# Altium integrated library Through Hole Resistors.IntLib: 2 symbols
Pins are listed as number, name and electrical type; pins without a type are passive.

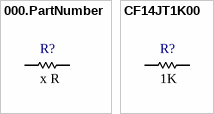
[diagram p0: symbols 000.PartNumber to CF14JT1K00]

## 000.PartNumber
designator R?  Resistance: x R  (hidden comment: *)
Digikey Description; Manufacturer: *; Series: *; Package: *; Tolerance: *; Power (Watts): *; Composition: *; Features: *; Temperature Coefficient: *; Operating Temperature: *; Package / Case: *; Supplier Device Package: *; Size / Dimension: *; Height - Seated (Max): *; Number of Terminations: *; Failure Rate: *; Ozdisan Link: *; Digikey Link: *; Farnell TR Link: *; Mouser Link: *
pins: 1, 2

## CF14JT1K00
designator R?  Resistance: 1K  (hidden comment: *)
RES 1K OHM 5% 1/4W AXIAL; Manufacturer: Stackpole Electronics Inc; Power (Watts): 0.25W, 1/4W; Temperature Coefficient: 0/ -400ppm/°C; Series: CF; Package: Tape & Reel (TR); Tolerance: ±5%; Composition: Carbon Film; Features: Flame Retardant Coating, Safety; Operating Temperature: -55°C ~ 155°C; Package / Case: Axial; Supplier Device Package: Axial; Size / Dimension: 0.091" Dia x 0.236" L (2.30mm x 6.00mm); Height - Seated (Max): -; Number of Terminations: 2; Failure Rate: -; Ozdisan Link: https://ozdisan.com/pasif-komponentler/direncler/tht-dip-direncler/CF14JT1K00; Digikey Link: https://www.digikey.com/en/products/detail/stackpole-electronics-inc/CF14JT1K00/1741314; Farnell TR Link: -; Mouser Link: -
footprint STACKPOLE_CF14
pins: 1, 2